# EAGLE library part TS-106-G-A (library SAMTEC-Txx_By_element14_Batch_1)
CONN HEADER, 2.54MM, THT VERT, 6 WAY
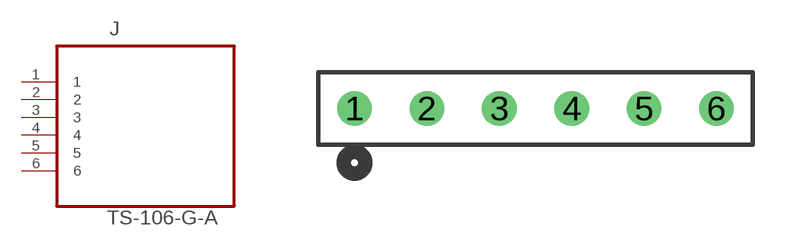
[diagram p390: symbol with the pads of SAMTEC_TS-106-G-A; footprint SAMTEC_TS-106-G-A]

Designator prefix J

## TS-106-G-A (MPN: TS-106-G-A; OC_FARNELL: 1668579; OC_NEWARK: 12P1121; PACKAGE: HEADER, 2.54MM, THT VERT,6 WAY; SUPPLIER: SAMTEC)  [SAMTEC_TS-106-G-A]
1  1  pas
2  2  pas
3  3  pas
4  4  pas
5  5  pas
6  6  pas

## Footprint SAMTEC_TS-106-G-A (pad centres in mm)
drill 0.711: 1 0,0; 2 2.54,0; 3 5.08,0; 4 7.62,0; 5 10.16,0; 6 12.7,0